# EAGLE library part XF3M-3115-1B (library neato_lcd_adapter)
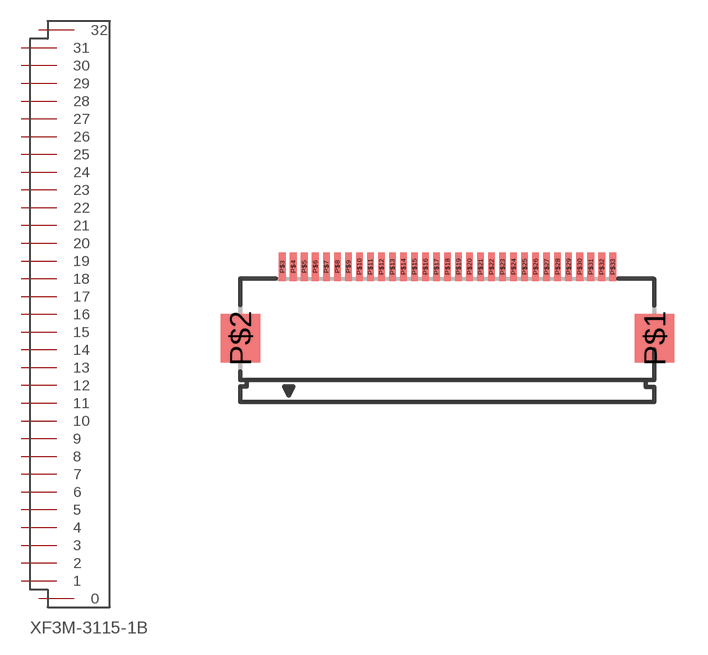
[diagram p0: symbol with the pads of FPC-31P-0.5MM; footprint FPC-31P-0.5MM]

Designator prefix -

## XF3M-3115-1B  [FPC-31P-0.5MM]
P$1  0
P$2  32
P$3  1
P$4  2
P$5  3
P$6  4
P$7  5
P$8  6
P$9  7
P$10  8
P$11  9
P$12  10
P$13  11
P$14  12
P$15  13
P$16  14
P$17  15
P$18  16
P$19  17
P$20  18
P$21  19
P$22  20
P$23  21
P$24  22
P$25  23
P$26  24
P$27  25
P$28  26
P$29  27
P$30  28
P$31  29
P$32  30
P$33  31

## Footprint FPC-31P-0.5MM (pad centres in mm)
smd 1.8 x 2.2: P$1 9.41,-1.1; P$2 -9.39,-1.1
smd 0.3 x 1.3: P$3 -7.49,2.15; P$4 -6.99,2.15; P$5 -6.49,2.15; P$6 -5.99,2.15; P$7 -5.49,2.15; P$8 -4.99,2.15; P$9 -4.49,2.15; P$10 -3.99,2.15; P$11 -3.49,2.15; P$12 -2.99,2.15; P$13 -2.49,2.15; P$14 -1.99,2.15; P$15 -1.49,2.15; P$16 -0.99,2.15; P$17 -0.49,2.15; P$18 0.01,2.15; P$19 0.51,2.15; P$20 1.01,2.15; P$21 1.51,2.15; P$22 2.01,2.15; P$23 2.51,2.15; P$24 3.01,2.15; P$25 3.51,2.15; P$26 4.01,2.15; P$27 4.51,2.15; P$28 5.01,2.15; P$29 5.51,2.15; P$30 6.01,2.15; P$31 6.51,2.15; P$32 7.01,2.15; P$33 7.51,2.15